# EAGLE library part MAX4998ETIT (library MAX4998ETIT)
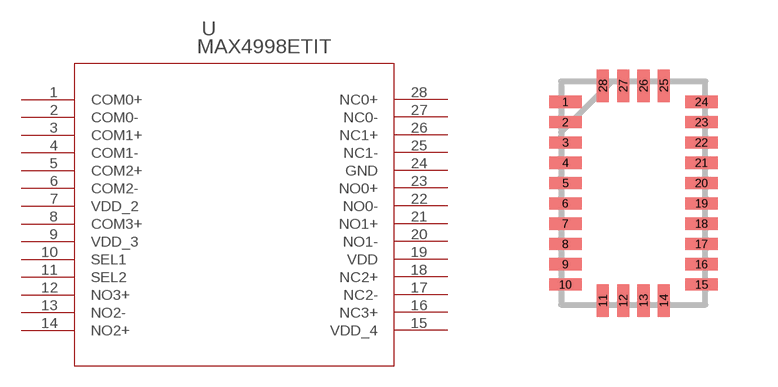
[diagram p0: symbol with the pads of 21-0184D; footprint 21-0184D]

Designator prefix U

## MAX4998ETIT (Availability: Unavailable; Description: Analog Switch Triple DPDT/Single SPDT 28-Pin TQFN EP T/R; MF: Maxim Integrated; MP: MAX4998ETI+T; Package: TQFN-28 Maxim Integrated; Price: 4.23 USD)  [21-0184D]
1  COM0+
2  COM0-
3  COM1+
4  COM1-
5  COM2+
6  COM2-
7  VDD_2  pwr
8  COM3+
9  VDD_3  pwr
10  SEL1
11  SEL2
12  NO3+
13  NO2-
14  NO2+
15  VDD_4  pwr
16  NC3+
17  NC2-
18  NC2+
19  VDD  pwr
20  NO1-
21  NO1+
22  NO0-
23  NO0+
24  GND  pwr
25  NC1-
26  NC1+
27  NC0-
28  NC0+

## Footprint 21-0184D (pad centres in mm)
smd 0.813 x 0.305: 1 -1.702,2.286; 2 -1.702,1.778; 3 -1.702,1.27; 4 -1.702,0.762; 5 -1.702,0.254; 6 -1.702,-0.254; 7 -1.702,-0.762; 8 -1.702,-1.27; 9 -1.702,-1.778; 10 -1.702,-2.286; 15 1.702,-2.286; 16 1.702,-1.778; 17 1.702,-1.27; 18 1.702,-0.762; 19 1.702,-0.254; 20 1.702,0.254; 21 1.702,0.762; 22 1.702,1.27; 23 1.702,1.778; 24 1.702,2.286
smd 0.305 x 0.813: 11 -0.762,-2.692; 12 -0.254,-2.692; 13 0.254,-2.692; 14 0.762,-2.692; 25 0.762,2.692; 26 0.254,2.692; 27 -0.254,2.692; 28 -0.762,2.692